# Altium schematic symbol library SCH - POWER - SWITCHMODE - TI TPS61181_RTE_16.SchLib: 1 symbol
Pins are listed as number, name and electrical type; pins without a type are passive.

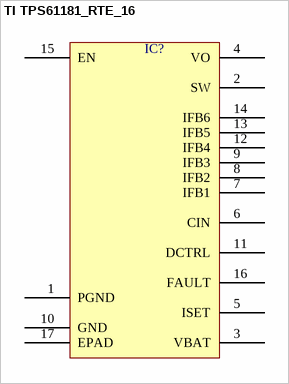
[diagram p0: symbol TI TPS61181_RTE_16]

## TI TPS61181_RTE_16
designator IC?  (value not drawn)
pins: 1 PGND, 2 SW, 3 VBAT, 4 VO, 5 ISET, 6 CIN, 7 IFB1, 8 IFB2, 9 IFB3, 10 GND, 11 DCTRL, 12 IFB4, 13 IFB5, 14 IFB6, 15 EN, 16 FAULT, 17 EPAD